# EAGLE library part IC_AVR_MEGA64 (library mylib_20130829)
MICROCONTROLLER 64 Kbytes FLASH 4 Kbytes SRAM 2 Kbytes EEPROM DUAL USART 8-channel 10 bit ADC Source: avr.lbr
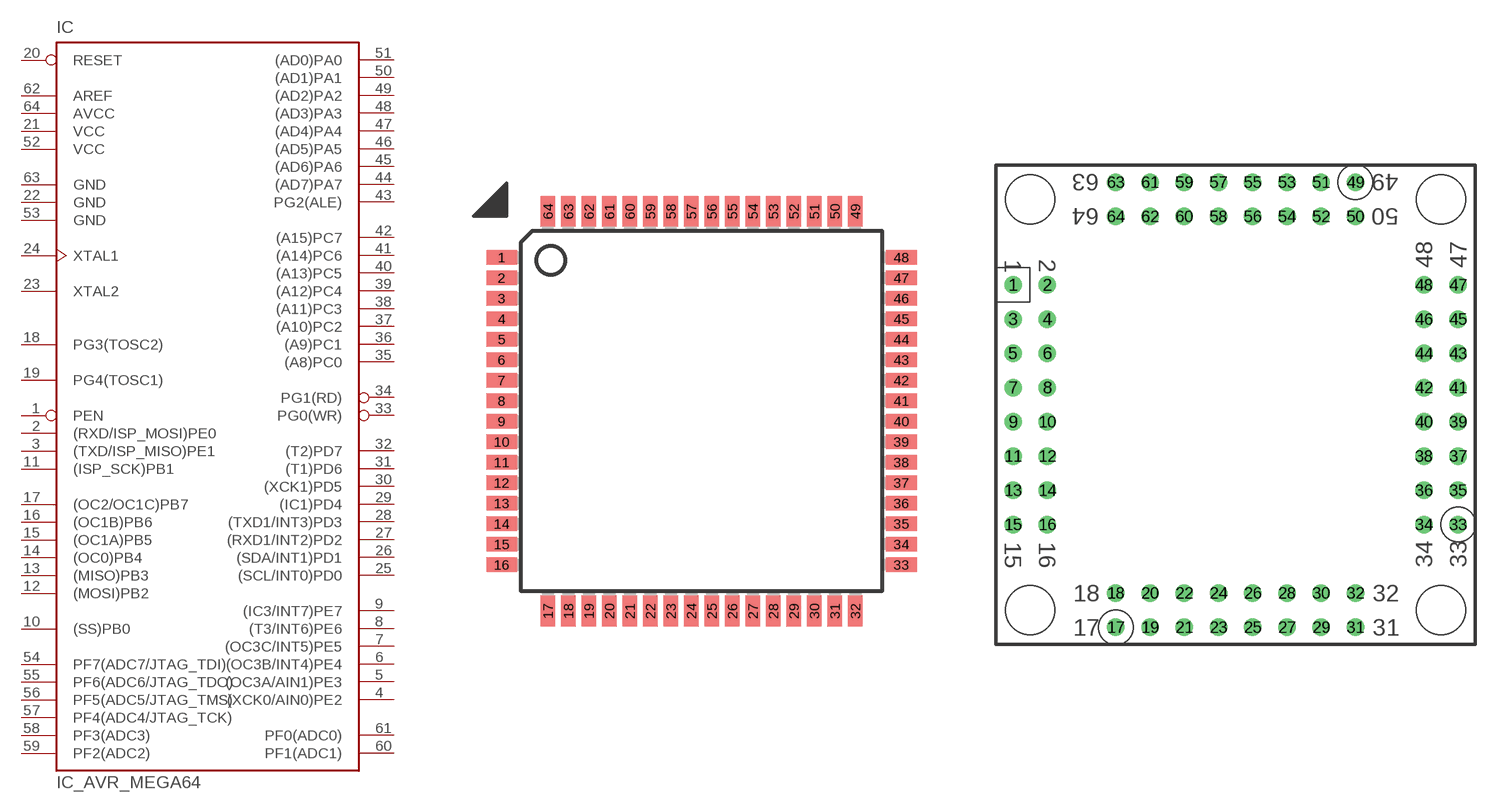
[diagram p63: symbol with the pads of IC_64_0.8_TQFP; footprints IC_64_0.8_TQFP, BOARD_HENKAN_QFP64]

Designator prefix IC

## IC_AVR_MEGA64_FLAT  [IC_64_0.8_TQFP]
1  PEN  in
2  (RXD/ISP_MOSI)PE0
3  (TXD/ISP_MISO)PE1
4  (XCK0/AIN0)PE2
5  (OC3A/AIN1)PE3
6  (OC3B/INT4)PE4
7  (OC3C/INT5)PE5
8  (T3/INT6)PE6
9  (IC3/INT7)PE7
10  (SS)PB0
11  (ISP_SCK)PB1
12  (MOSI)PB2
13  (MISO)PB3
14  (OC0)PB4
15  (OC1A)PB5
16  (OC1B)PB6
17  (OC2/OC1C)PB7
18  PG3(TOSC2)
19  PG4(TOSC1)
20  RESET  in
21  VCC  pwr
22  GND  pwr
23  XTAL2
24  XTAL1
25  (SCL/INT0)PD0
26  (SDA/INT1)PD1
27  (RXD1/INT2)PD2
28  (TXD1/INT3)PD3
29  (IC1)PD4
30  (XCK1)PD5
31  (T1)PD6
32  (T2)PD7
33  PG0(WR)
34  PG1(RD)
35  (A8)PC0  out
36  (A9)PC1  out
37  (A10)PC2  out
38  (A11)PC3  out
39  (A12)PC4  out
40  (A13)PC5  out
41  (A14)PC6  out
42  (A15)PC7  out
43  PG2(ALE)
44  (AD7)PA7
45  (AD6)PA6
46  (AD5)PA5
47  (AD4)PA4
48  (AD3)PA3
49  (AD2)PA2
50  (AD1)PA1
51  (AD0)PA0
52  VCC  pwr
53  GND  pwr
54  PF7(ADC7/JTAG_TDI)  in
55  PF6(ADC6/JTAG_TDO)  in
56  PF5(ADC5/JTAG_TMS)  in
57  PF4(ADC4/JTAG_TCK)  in
58  PF3(ADC3)  in
59  PF2(ADC2)  in
60  PF1(ADC1)  in
61  PF0(ADC0)  in
62  AREF  pas
63  GND  pwr
64  AVCC  pwr

## IC_AVR_MEGA64DIP  [BOARD_HENKAN_QFP64]
Pads as for IC_64_0.8_TQFP

## Footprint IC_64_0.8_TQFP (pad centres in mm)
Thin Plasic Quad Flat Package Updated from atml.lbr 17.01.2005 alf@cadsoft.de
smd 1.194 x 0.559: 1 -7.8,6; 2 -7.8,5.2; 3 -7.8,4.4; 4 -7.8,3.6; 5 -7.8,2.8; 6 -7.8,2; 7 -7.8,1.2; 8 -7.8,0.4; 9 -7.8,-0.4; 10 -7.8,-1.2; 11 -7.8,-2; 12 -7.8,-2.8; 13 -7.8,-3.6; 14 -7.8,-4.4; 15 -7.8,-5.2; 16 -7.8,-6; 33 7.8,-6; 34 7.8,-5.2; 35 7.8,-4.4; 36 7.8,-3.6; 37 7.8,-2.8; 38 7.8,-2; 39 7.8,-1.2; 40 7.8,-0.4; 41 7.8,0.4; 42 7.8,1.2; 43 7.8,2; 44 7.8,2.8; 45 7.8,3.6; 46 7.8,4.4; 47 7.8,5.2; 48 7.8,6
smd 0.559 x 1.194: 17 -6,-7.8; 18 -5.2,-7.8; 19 -4.4,-7.8; 20 -3.6,-7.8; 21 -2.8,-7.8; 22 -2,-7.8; 23 -1.2,-7.8; 24 -0.4,-7.8; 25 0.4,-7.8; 26 1.2,-7.8; 27 2,-7.8; 28 2.8,-7.8; 29 3.6,-7.8; 30 4.4,-7.8; 31 5.2,-7.8; 32 6,-7.8; 49 6,7.8; 50 5.2,7.8; 51 4.4,7.8; 52 3.6,7.8; 53 2.8,7.8; 54 2,7.8; 55 1.2,7.8; 56 0.4,7.8; 57 -0.4,7.8; 58 -1.2,7.8; 59 -2,7.8; 60 -2.8,7.8; 61 -3.6,7.8; 62 -4.4,7.8; 63 -5.2,7.8; 64 -6,7.8

## Footprint BOARD_HENKAN_QFP64 (pad centres in mm)
drill 0.8: 1 1.27,26.67; 2 3.81,26.67; 3 1.27,24.13; 4 3.81,24.13; 5 1.27,21.59; 6 3.81,21.59; 7 1.27,19.05; 8 3.81,19.05; 9 1.27,16.51; 10 3.81,16.51; 11 1.27,13.97; 12 3.81,13.97; 13 1.27,11.43; 14 3.81,11.43; 15 1.27,8.89; 16 3.81,8.89; 17 8.89,1.27; 18 8.89,3.81; 19 11.43,1.27; 20 11.43,3.81; 21 13.97,1.27; 22 13.97,3.81; 23 16.51,1.27; 24 16.51,3.81; 25 19.05,1.27; 26 19.05,3.81; 27 21.59,1.27; 28 21.59,3.81; 29 24.13,1.27; 30 24.13,3.81; 31 26.67,1.27; 32 26.67,3.81; 33 34.29,8.89; 34 31.75,8.89; 35 34.29,11.43; 36 31.75,11.43; 37 34.29,13.97; 38 31.75,13.97; 39 34.29,16.51; 40 31.75,16.51; 41 34.29,19.05; 42 31.75,19.05; 43 34.29,21.59; 44 31.75,21.59; 45 34.29,24.13; 46 31.75,24.13; 47 34.29,26.67; 48 31.75,26.67; 49 26.67,34.29; 50 26.67,31.75; 51 24.13,34.29; 52 24.13,31.75; 53 21.59,34.29; 54 21.59,31.75; 55 19.05,34.29; 56 19.05,31.75; 57 16.51,34.29; 58 16.51,31.75; 59 13.97,34.29; 60 13.97,31.75; 61 11.43,34.29; 62 11.43,31.75; 63 8.89,34.29; 64 8.89,31.75